# Altium schematic symbol library BQ24079TRGTR.SchLib: 1 symbol
Pins are listed as number, name and electrical type; pins without a type are passive.

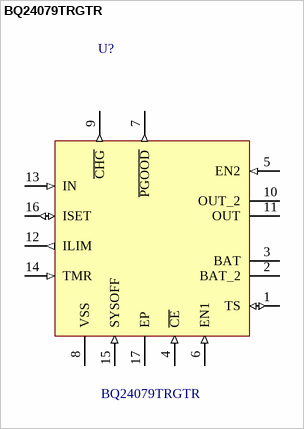
[diagram p0: symbol BQ24079TRGTR]

## BQ24079TRGTR
designator U?
MF: Texas Instruments; MP: BQ24079RGTR; SnapEDA_Link: https://www.snapeda.com/parts/BQ24079TRGTR/Texas%20Instruments/view-part/144669/?ref=snap; Value: *; Digikey link: https://www.digikey.com/product-detail/en/texas-instruments/BQ24079RGTR/296-24815-1-ND/2094655; Package: 16-VFQFN Exposed Pad; Price: 2.21; Datasheet link: http://www.ti.com/lit/ds/symlink/bq24079.pdf; Supplier 1: Digi-Key; Supplier Part Number 1: 296-24815-1-ND
footprint *QFN50P300X300X100-17N
pins: 1 TS (io), 2 BAT_2 (power), 3 BAT (power), 4 ~{CE} (in), 5 EN2 (in), 6 EN1 (in), 7 ~{PGOOD} (out), 8 VSS, 9 ~{CHG} (out), 10 OUT_2 (power), 11 OUT (power), 12 ILIM (out), 13 IN (in), 14 TMR (in), 15 SYSOFF (in), 16 ISET (io), 17 EP